# Altium footprint library Pathfinder_lib.PcbLib: 9 footprints
Each footprint in its own frame and in the unit in brackets; x right, y up, seen from the top. Pads: shape width x height; smd on the part's side, far side on the other; paste and mask are expansions set on the pad; w line width, h text height; cw(c..) or ccw(c..) is an arc to the next point about the centre after c.
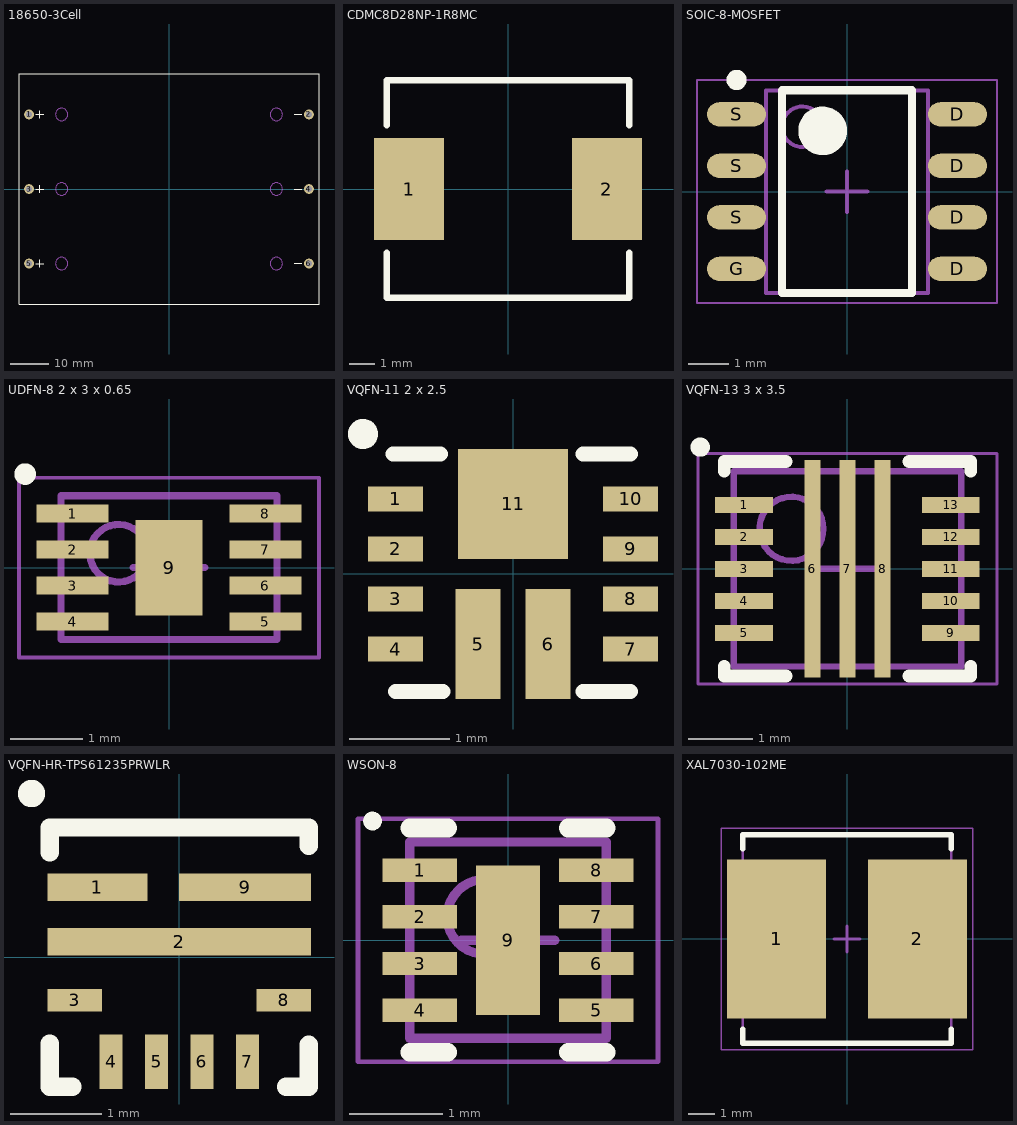
[diagram p0: the footprints below, top view; thin cyan lines are the x and y axes]

## 18650-3Cell [mm] "BK-18650-PC6"
height 21.85
pads (6):
  round 2.54 hole 1.6: 1(-36.25,19.3) 2(36.25,19.3) 3(-36.25,0) 4(36.25,0) 5(-36.25,-19.3) 6(36.25,-19.3)
Top Overlay:
  lines w0.254: -34.5,-19.3 -32.5,-19.3 ; -34.5,0 -32.5,0 ; -34.5,19.3 -32.5,19.3 ; -33.5,-20.3 -33.5,-18.3 ; -33.5,-1 -33.5,1 ; -33.5,18.3 -33.5,20.3 ; 32.4,-19.2 34.4,-19.2 ; 32.4,0 34.4,0 ; 32.4,19.3 34.4,19.3 ; -38.85,-29.845 -38.85,29.845 38.85,29.845 38.85,-29.845 -38.85,-29.845
Mechanical 1:
  circle w0.254: c-27.81,19.3 r1.6
  circle w0.254: c27.81,19.3 r1.6
  circle w0.254: c-27.81,0 r1.6
  circle w0.254: c27.81,0 r1.6
  circle w0.254: c-27.81,-19.3 r1.6
  circle w0.254: c27.81,-19.3 r1.6
Mechanical 13:
  circle w0.254: c27.81,-19.3 r1.6
  circle w0.254: c-27.81,-19.3 r1.6
  circle w0.254: c27.81,0 r1.6
  circle w0.254: c-27.81,0 r1.6
  circle w0.254: c27.81,19.3 r1.6
  circle w0.254: c-27.81,19.3 r1.6

## CDMC8D28NP-1R8MC [mm] "CDMC8D28NP-1R8MC inductor"
height 3
pads (2):
  rect 2.75x4 smd: 1(-3.875,0) 2(3.875,0)
Top Overlay:
  lines w0.254: -4.75,-2.5 -4.75,-4.25 4.75,-4.25 4.75,-2.5 ; -4.75,2.5 -4.75,4.25 4.75,4.25 4.75,2.5
3D body: height 3, standoff 0, extent -4.75,-4.25 4.75,4.25

## SOIC-8-MOSFET [mm] "SOIC, 8-Leads, Body 4.90x3.90mm, Pitch 1.27mm, IPC Medium Density"
height 1.75
pads (8):
  oval 1.45x0.6 smd: D(2.725,-1.905) D(2.725,-0.635) D(2.725,0.635) D(2.725,1.905) G(-2.725,-1.905) S(-2.725,-0.635) S(-2.725,0.635) S(-2.725,1.905)
Top Overlay:
  circle w0.6: c-0.6,1.5 r0.3
  circle w0.25: c-2.725,2.755 r0.125
  lines w0.2: -1.6,-2.5 1.6,-2.5 1.6,2.5 -1.6,2.5 -1.6,-2.5
Mechanical 13:
  circle w0.1: c-1.1,1.6 r0.5
  lines w0.1: -2,-2.5 2,-2.5 2,2.5 -2,2.5 -2,-2.5
Mechanical 15:
  lines w0.05: -3.7,-2.75 3.7,-2.75 3.7,2.75 -3.7,2.75 -3.7,-2.75
  lines w0.1: -0.5,0 0.5,0 ; 0,-0.5 0,0.5
3D body: height 1.75, standoff 0.1, extent -2,-2.5 2,2.5

## UDFN-8 2 x 3 x 0.65 [mm] "SON, 8-Leads, Body 2.00x3.00mm, Pitch 0.50mm, Thermal Pad 1.33x0.93mm, IPC Medium Density"
height 0.65
pads (9):
  rect 1x0.25 smd: 1(-1.34,0.75) 2(-1.34,0.25) 3(-1.34,-0.25) 4(-1.34,-0.75) 5(1.34,-0.75) 6(1.34,-0.25) 7(1.34,0.25) 8(1.34,0.75)
  rect 0.93x1.33 smd: 9(0,0)
Top Overlay:
  circle w0.2: c-2,1.3 r0.05
Mechanical 13:
  circle w0.1: c-0.7,0.2 r0.4
  lines w0.1: -1.5,-1 1.5,-1 1.5,1 -1.5,1 -1.5,-1
Mechanical 15:
  lines w0.05: -2.085,-1.25 2.085,-1.25 2.085,1.25 -2.085,1.25 -2.085,-1.25
  lines w0.1: -0.5,0 0.5,0 ; 0,-0.5 0,0.5
3D body: height 0.65, standoff 0.05, extent -1.5,-1 1.5,1

## VQFN-11 2 x 2.5 [mm] "tps61089x"
height 1
pads (11):
  rect 0.55x0.25 smd mask+0.05: 1(-1.175,0.75) 2(-1.175,0.25) 3(-1.175,-0.25) 4(-1.175,-0.75) 7(1.175,-0.75) 8(1.175,-0.25) 9(1.175,0.25) 10(1.175,0.75)
  rect 0.45x1.1 smd mask-0.05: 5(-0.35,-0.7) 6(0.35,-0.7)
  rect 1.1x1.1 smd mask-0.05: 11(0,0.7)
Top Overlay:
  circle w0.2: c-1.5,1.4 r0.05
  lines w0.152: -1.2,1.2 -0.725,1.2 ; -1.175,-1.175 -0.7,-1.175 ; 0.7,-1.175 1.175,-1.175 ; 0.7,1.2 1.175,1.2
3D body: height 1, standoff 0, extent -1.25,-1 1.25,1

## VQFN-13 3 x 3.5 [mm] "SON, 10-Leads, Body 3.00x3.50mm, Pitch 0.50mm, IPC Medium Density"
height 1
pads (13):
  rect 0.9x0.25 smd: 1(-1.615,1) 2(-1.615,0.5) 3(-1.615,0) 4(-1.615,-0.5) 5(-1.615,-1) 9(1.615,-1) 10(1.615,-0.5) 11(1.615,0) 12(1.615,0.5) 13(1.615,1)
  rect 0.25x3.4 smd: 6(-0.55,0) 7(0,0) 8(0.55,0)
Top Overlay:
  circle w0.2: c-2.3,1.9 r0.05
  lines w0.2: -1.925,-1.525 -1.925,-1.675 -0.962,-1.675 ; -1.925,1.525 -1.925,1.675 -0.962,1.675 ; 0.962,-1.675 1.925,-1.675 1.925,-1.525 ; 0.962,1.675 1.925,1.675 1.925,1.525
Mechanical 13:
  circle w0.1: c-0.875,0.625 r0.5
  lines w0.1: -1.775,-1.525 -1.775,1.525 1.775,1.525 1.775,-1.525 -1.775,-1.525
Mechanical 15:
  lines w0.05: -2.335,-1.8 -2.335,1.8 2.335,1.8 2.335,-1.8 -2.335,-1.8
  lines w0.1: -0.5,0 0.5,0 ; 0,-0.5 0,0.5
3D body: height 1, standoff 0.05, extent -1.775,-1.525 1.775,1.525

## VQFN-HR-TPS61235PRWLR [mm]
pads (9):
  rect 1.1x0.3 smd: 1(-0.9,0.77)
  rect 2.9x0.3 smd: 2(0,0.17)
  rect 0.6x0.25 smd: 3(-1.15,-0.475) 8(1.15,-0.475)
  rect 0.25x0.6 smd: 4(-0.75,-1.15) 5(-0.25,-1.15) 6(0.25,-1.15) 7(0.75,-1.15)
  rect 1.45x0.3 smd: 9(0.725,0.77)
Top Overlay:
  circle w0.2: c-1.625,1.8 r0.05
  lines w0.2: -1.425,-1.425 -1.175,-1.425 ; -1.425,-1.412 -1.425,-0.95 ; -1.425,1.15 -1.425,1.425 1.425,1.425 1.425,1.225 ; 1.175,-1.425 1.425,-1.425 1.425,-0.963
3D body: height 1, standoff 0, extent -1.25,-1.25 1.25,1.25

## WSON-8 [mm] "SON, 8-Leads, Body 2.00x2.00mm, Pitch 0.50mm, Thermal Pad 1.60x0.69mm, IPC Medium Density"
height 0.8
pads (9):
  rect 0.8x0.25 smd: 1(-0.945,0.75) 2(-0.945,0.25) 3(-0.945,-0.25) 4(-0.945,-0.75) 5(0.945,-0.75) 6(0.945,-0.25) 7(0.945,0.25) 8(0.945,0.75)
  rect 0.69x1.6 smd: 9(0,0)
Top Overlay:
  circle w0.1: c-1.45,1.275 r0.05
  lines w0.2: -1.05,-1.2 -0.645,-1.2 ; -1.05,1.2 -0.645,1.2 ; 0.645,-1.2 1.05,-1.2 ; 0.645,1.2 1.05,1.2
Mechanical 13:
  circle w0.1: c-0.25,0.25 r0.4
  lines w0.1: -1.05,-1.05 -1.05,1.05 1.05,1.05 1.05,-1.05 -1.05,-1.05
Mechanical 15:
  lines w0.05: -1.605,-1.3 -1.605,1.3 1.605,1.3 1.605,-1.3 -1.605,-1.3
  lines w0.1: -0.5,0 0.5,0 ; 0,-0.5 0,0.5
3D body: height 0.8, standoff 0.08, extent -1.05,-1.05 1.05,1.05

## XAL7030-102ME [mm] "Precision Wire Wound Inductor, 2-Leads, Body 7.50x7.50mm, IPC Medium Density"
height 3.1
pads (2):
  rect 3.8x6.1 smd: 1(-2.7,0) 2(2.7,0)
Top Overlay:
  lines w0.2: -4,-3.45 -4,-4 4,-4 4,-3.45 ; -4,3.45 -4,4 4,4 4,3.45
Mechanical 13:
  lines w0.1: -4,-4 -4,4 4,4 4,-4 -4,-4
Mechanical 15:
  lines w0.05: -4.825,-4.25 -4.825,4.25 4.825,4.25 4.825,-4.25 -4.825,-4.25
  lines w0.1: -0.5,0 0.5,0 ; 0,-0.5 0,0.5
3D body: height 3.1, standoff 0, extent -4,-4 4,4